# Altium footprint library SOD128.PcbLib: 1 footprints
Each footprint in its own frame and in the unit in brackets; x right, y up, seen from the top. Pads: shape width x height; smd on the part's side, far side on the other; paste and mask are expansions set on the pad; w line width, h text height; cw(c..) or ccw(c..) is an arc to the next point about the centre after c.
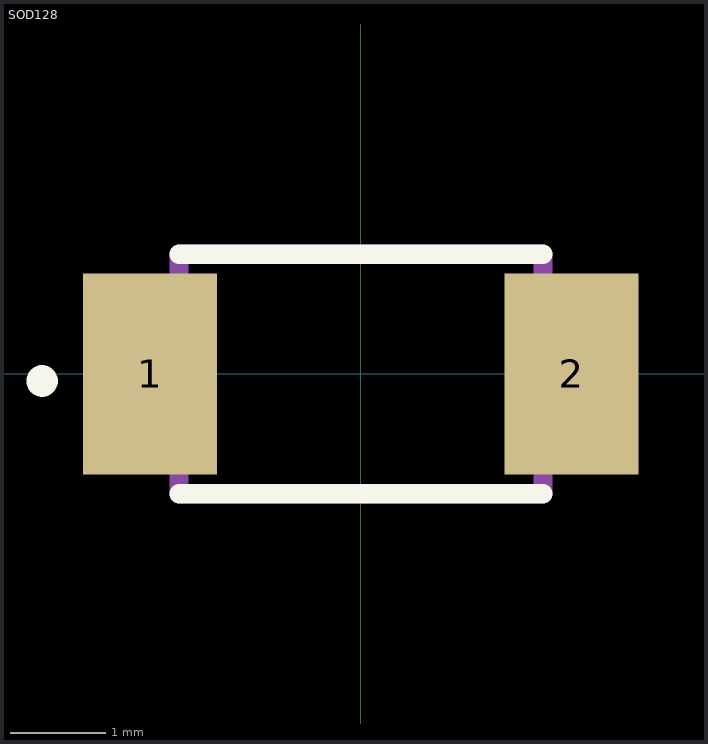
[diagram p0: the footprint, top view; thin cyan lines are the x and y axes]

## SOD128 [mm]
pads (2):
  rect 1.4x2.1 smd: 1(-2.2,0) 2(2.2,0)
L26-Silk Screen Top (Multiple PADS layers...):
  circle w0.2: c-3.328,-0.073 r0.065
  lines w0.2: -1.9,-1.25 1.9,-1.25 ; -1.9,1.25 1.9,1.25
L15 (Multiple PADS layers...):
  lines w0.2: -1.9,-1.25 1.9,-1.25 1.9,1.25 -1.9,1.25 -1.9,-1.25